# Altium schematic symbol library NB7V52MMNG.SchLib: 1 symbol
Pins are listed as number, name and electrical type; pins without a type are passive.

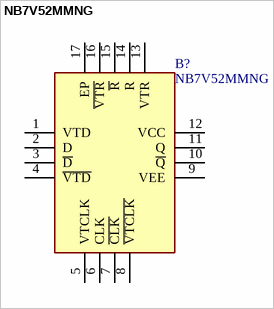
[diagram p0: symbol NB7V52MMNG]

## NB7V52MMNG
designator B?
Flip Flop D-Type Pos-Edge/Neg-Edge 1-Element 16-Pin QFN EP Rail; Manufacturer_Name: onsemi; Geometry.Height: 1mm; Manufacturer_Part_Number: NB7V52MMNG; Mouser Part Number: 863-NB7V52MMNG; Mouser Price/Stock: https://www.mouser.co.uk/ProductDetail/ON-Semiconductor/NB7V52MMNG?qs=N5dOQkml4H8i91m%252BmwlaUQ%3D%3D; Arrow Part Number: NB7V52MMNG; Arrow Price/Stock: https://www.arrow.com/en/products/nb7v52mmng/on-semiconductor; Datasheet Link: https://www.onsemi.com/pdf/datasheet/nb7v52m-d.pdf
pins: 1 VTD, 2 D, 3 ~{D}, 4 ~{VTD}, 5 VTCLK, 6 CLK, 7 ~{CLK}, 8 ~{VTCLK}, 9 VEE, 10 ~{Q}, 11 Q, 12 VCC, 13 VTR, 14 R, 15 ~{R}, 16 ~{VTR}, 17 EP